# Altium footprint library YS_STM32F407_MC.PcbLib: 52 footprints (part 2 of 4)
Each footprint in its own frame and in the unit in brackets; x right, y up, seen from the top. Pads: shape width x height; smd on the part's side, far side on the other; paste and mask are expansions set on the pad; w line width, h text height; cw(c..) or ccw(c..) is an arc to the next point about the centre after c.
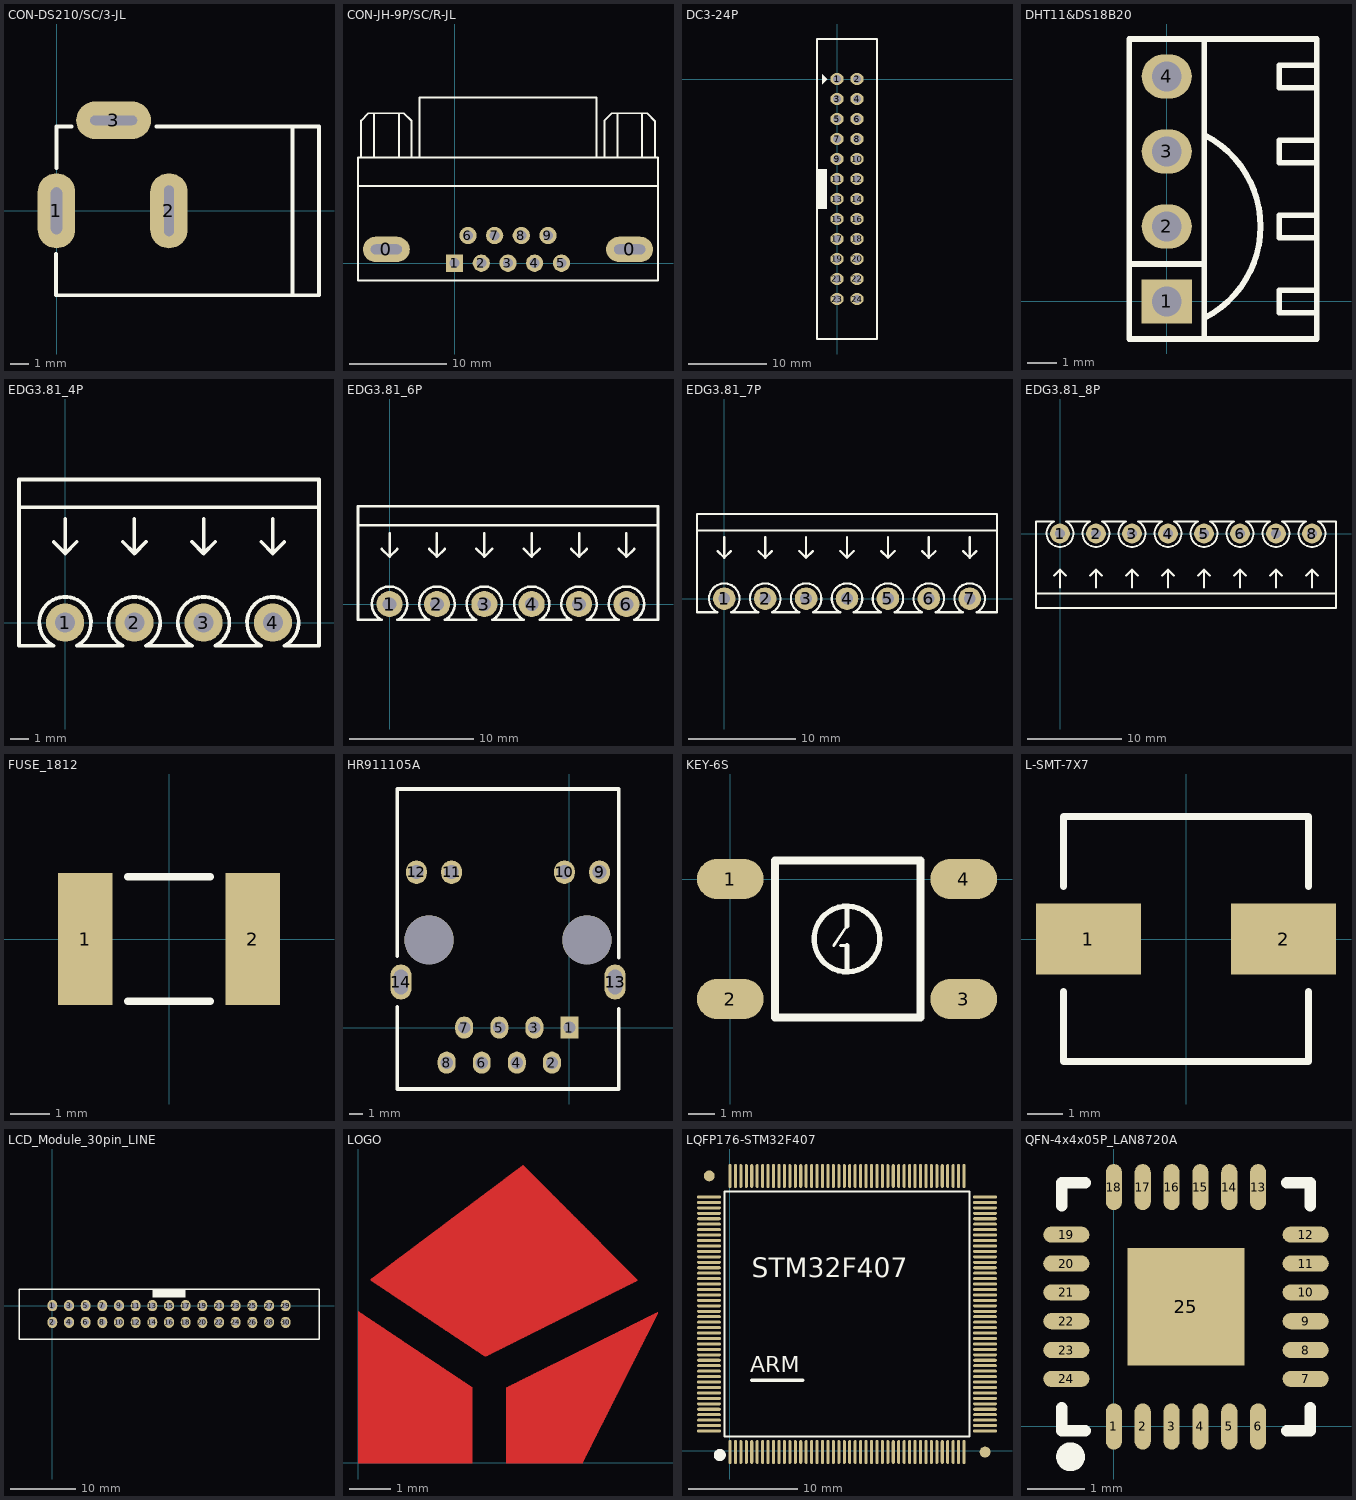
[diagram p1: the footprints below, top view; thin cyan lines are the x and y axes]

## CON-DS210/SC/3-JL [mm]
pads (3):
  oval 2x4 hole 0.6 slot 2.5 at 90 deg: 1(0,0)
  oval 2x4 hole 0.5 slot 2.7 at 90 deg: 2(6,0)
  oval 4x2 hole 0.5 slot 2.5 at 0 deg: 3(3.048,4.826)
Top Overlay:
  lines w0.2: -0.023,-2.286 -0.023,-4.5 14,-4.5 14,4.5 5.334,4.5 ; -0.001,2.286 -0.001,4.49 0.8,4.49 ; 12.589,-4.362 12.589,4.477

## CON-JH-9P/SC/R-JL [mil]
pads (11):
  oval 190x102.36 hole 39.37 slot 125.98 at 0 deg: 0(-275.79,55.91) 0(708.07,55.91)
  rect 70x70 hole 40: 1(0,0)
  round 70 hole 40: 2(108.27,0) 3(216.14,0) 4(324.02,0) 5(432.28,0) 6(54.33,111.81) 7(162.2,111.81) 8(270.08,111.81) 9(377.95,111.81)
Top Overlay:
  lines w7.87: -390.35,312.84 822.8,312.84 ; -378.15,426.77 -378.15,576.85 ; -378.15,575 -378.15,576.85 ; -325,426.77 -325,605 ; -225,426.77 -225,606.3 ; -173.43,426.77 -173.43,575 -204.73,606.3 -348.7,606.3 -378.15,576.85 ; 605.71,426.77 605.71,576.85 ; 605.71,575 605.71,576.85 ; 658.86,426.77 658.86,605 ; 758.86,426.77 758.86,606.3 ; 810.43,426.77 810.43,575 779.13,606.3 635.16,606.3 605.71,576.85 ; 822.64,426.77 822.64,-70.08 -390.35,-70.08 -390.35,426.77 822.8,426.77 ; -142.13,426.77 -142.13,670.08 574.41,670.08 574.41,426.77 -142.13,426.77

## DC3-24P [mm]
pads (24):
  oval 1.7x1.5 hole 1: 1(0,0) 2(2.54,0) 3(0,-2.54) 4(2.54,-2.54) 5(0,-5.08) 6(2.54,-5.08) 7(0,-7.62) 8(2.54,-7.62) 9(0,-10.16) 10(2.54,-10.16) 11(0,-12.7) 12(2.54,-12.7) 13(0,-15.24) 14(2.54,-15.24) 15(0,-17.78) 16(2.54,-17.78) 17(0,-20.32) 18(2.54,-20.32) 19(0,-22.86) 20(2.54,-22.86) 21(0,-25.4) 22(2.54,-25.4) 23(0,-27.94) 24(2.54,-27.94)
Top Overlay:
  rectangle: -2.54,-16.51 -1.27,-11.43
  region: -1.905,0.635 -1.27,0 -1.905,-0.635
  lines w0.2: -2.54,-33.02 5.08,-33.02 5.08,5.08 -2.54,5.08 -2.54,2.54 -2.54,0 -2.54,-33.02

## DHT11&DS18B20 [mm]
pads (4):
  rect 1.7x1.5 hole 1: 1(0,0)
  oval 1.7x1.5 hole 1: 2(0,2.54) 3(0,5.08) 4(0,7.62)
Top Overlay:
  lines w0.2: -1.27,1.27 1.27,1.27 ; 1.301,-0.545 ccw(c-0.302,2.54) 1.301,5.625 ; 5.08,-0.381 3.81,-0.381 3.81,0.381 5.08,0.381 ; 5.08,2.159 3.81,2.159 3.81,2.921 5.08,2.921 ; 5.08,4.699 3.81,4.699 3.81,5.461 5.08,5.461 ; 5.08,7.239 3.81,7.239 3.81,8.001 5.08,8.001 ; 1.27,-1.27 -1.27,-1.27 -1.27,8.89 1.27,8.89 ; 1.27,-1.27 1.27,8.89 ; 1.27,-1.27 5.08,-1.27 5.08,8.89 1.27,8.89

## EDG3.81_4P [mm]
pads (4):
  round 2.1 hole 1.1: 1(0,0) 2(3.81,0) 3(7.62,0) 4(11.43,0)
Top Overlay:
  lines w0.203: -2.54,6.35 13.97,6.35 ; -0.635,4.445 0,3.81 ; 0,5.715 0,3.81 ; 0.635,4.445 0,3.81 ; 3.175,4.445 3.81,3.81 ; 3.81,5.715 3.81,3.81 ; 4.445,4.445 3.81,3.81 ; 6.985,4.445 7.62,3.81 ; 7.62,5.715 7.62,3.81 ; 8.255,4.445 7.62,3.81 ; 10.795,4.445 11.43,3.81 ; 11.43,5.715 11.43,3.81 ; 12.065,4.445 11.43,3.81 ; -2.54,-1.27 -2.54,7.874 13.97,7.874 13.97,-1.27 12.065,-1.27 ccw(c11.43,0) 10.795,-1.27 8.255,-1.27 ccw(c7.62,0) 6.985,-1.27 4.445,-1.27 ccw(c3.81,0) 3.175,-1.27 0.635,-1.27 ccw(c0,0) -0.635,-1.27 -2.54,-1.27

## EDG3.81_6P [mm]
pads (6):
  round 2.1 hole 1.1: 1(0,0) 2(3.81,0) 3(7.62,0) 4(11.43,0) 5(15.24,0) 6(19.05,0)
Top Overlay:
  lines w0.203: -2.54,6.35 21.59,6.35 ; -0.635,4.445 0,3.81 ; 0,5.715 0,3.81 ; 0.635,4.445 0,3.81 ; 3.175,4.445 3.81,3.81 ; 3.81,5.715 3.81,3.81 ; 4.445,4.445 3.81,3.81 ; 6.985,4.445 7.62,3.81 ; 7.62,5.715 7.62,3.81 ; 8.255,4.445 7.62,3.81 ; 10.795,4.445 11.43,3.81 ; 11.43,5.715 11.43,3.81 ; 12.065,4.445 11.43,3.81 ; 14.605,4.445 15.24,3.81 ; 15.24,5.715 15.24,3.81 ; 15.875,4.445 15.24,3.81 ; 18.415,4.445 19.05,3.81 ; 19.05,5.715 19.05,3.81 ; 19.685,4.445 19.05,3.81 ; -2.54,-1.27 -0.635,-1.27 cw(c0,0) 0.635,-1.27 3.175,-1.27 cw(c3.81,0) 4.445,-1.27 6.985,-1.27 cw(c7.62,0) 8.255,-1.27 10.795,-1.27 cw(c11.43,0) 12.065,-1.27 14.605,-1.27 cw(c15.24,0) 15.875,-1.27 18.415,-1.27 cw(c19.05,0) 19.685,-1.27 21.59,-1.27 21.59,7.874 -2.54,7.874 -2.54,-1.27

## EDG3.81_7P [mm]
pads (7):
  round 2.1 hole 1.1: 1(0,0) 2(3.81,0) 3(7.62,0) 4(11.43,0) 5(15.24,0) 6(19.05,0) 7(22.86,0)
Top Overlay:
  lines w0.203: -2.54,6.35 25.4,6.35 ; -0.635,4.445 0,3.81 ; 0,5.715 0,3.81 ; 0.635,4.445 0,3.81 ; 3.175,4.445 3.81,3.81 ; 3.81,5.715 3.81,3.81 ; 4.445,4.445 3.81,3.81 ; 6.985,4.445 7.62,3.81 ; 7.62,5.715 7.62,3.81 ; 8.255,4.445 7.62,3.81 ; 10.795,4.445 11.43,3.81 ; 11.43,5.715 11.43,3.81 ; 12.065,4.445 11.43,3.81 ; 14.605,4.445 15.24,3.81 ; 15.24,5.715 15.24,3.81 ; 15.875,4.445 15.24,3.81 ; 18.415,4.445 19.05,3.81 ; 19.05,5.715 19.05,3.81 ; 19.685,4.445 19.05,3.81 ; 22.225,4.445 22.86,3.81 ; 22.86,5.715 22.86,3.81 ; 23.495,4.445 22.86,3.81 ; -2.54,-1.27 -0.635,-1.27 cw(c0,0) 0.635,-1.27 3.175,-1.27 cw(c3.81,0) 4.445,-1.27 6.985,-1.27 cw(c7.62,0) 8.255,-1.27 10.795,-1.27 cw(c11.43,0) 12.065,-1.27 14.605,-1.27 cw(c15.24,0) 15.875,-1.27 18.415,-1.27 cw(c19.05,0) 19.685,-1.27 22.225,-1.27 cw(c22.86,0) 23.495,-1.27 23.749,-1.27 25.4,-1.27 25.4,7.874 -2.54,7.874 -2.54,-1.27

## EDG3.81_8P [mm]
pads (8):
  round 2.1 hole 1.1: 1(0,0) 2(3.81,0) 3(7.62,0) 4(11.43,0) 5(15.24,0) 6(19.05,0) 7(22.86,0) 8(26.67,0)
Top Overlay:
  lines w0.203: -2.54,-6.35 29.21,-6.35 ; -0.635,-4.445 0,-3.81 ; 0,-5.715 0,-3.81 ; 0.635,-4.445 0,-3.81 ; 3.175,-4.445 3.81,-3.81 ; 3.81,-5.715 3.81,-3.81 ; 4.445,-4.445 3.81,-3.81 ; 6.985,-4.445 7.62,-3.81 ; 7.62,-5.715 7.62,-3.81 ; 8.255,-4.445 7.62,-3.81 ; 10.795,-4.445 11.43,-3.81 ; 11.43,-5.715 11.43,-3.81 ; 12.065,-4.445 11.43,-3.81 ; 14.605,-4.445 15.24,-3.81 ; 15.24,-5.715 15.24,-3.81 ; 15.875,-4.445 15.24,-3.81 ; 18.415,-4.445 19.05,-3.81 ; 19.05,-5.715 19.05,-3.81 ; 19.685,-4.445 19.05,-3.81 ; 22.225,-4.445 22.86,-3.81 ; 22.86,-5.715 22.86,-3.81 ; 23.495,-4.445 22.86,-3.81 ; 26.035,-4.445 26.67,-3.81 ; 26.67,-5.715 26.67,-3.81 ; 27.305,-4.445 26.67,-3.81 ; -2.54,-7.874 -2.54,1.27 -0.635,1.27 ccw(c0,0) 0.635,1.27 3.175,1.27 ccw(c3.81,0) 4.445,1.27 6.985,1.27 ccw(c7.62,0) 8.255,1.27 10.795,1.27 ccw(c11.43,0) 12.065,1.27 14.605,1.27 ccw(c15.24,0) 15.875,1.27 18.415,1.27 ccw(c19.05,0) 19.685,1.27 22.225,1.27 ccw(c22.86,0) 23.495,1.27 26.035,1.27 ccw(c26.67,0) 27.305,1.27 29.21,1.27 29.21,-7.874 -2.54,-7.874

## FUSE_1812 [mm]
pads (2):
  rect 1.4x3.4 smd: 1(-2.15,0) 2(2.15,0)
Top Overlay:
  lines w0.2: -1.05,-1.6 1.05,-1.6 ; -1.05,1.6 1.05,1.6

## HR911105A [mm]
pads (16):
  rect 1.3x1.6 hole 0.89: 1(0,0)
  oval 1.3x1.6 hole 0.89: 2(-1.27,-2.54) 3(-2.54,0) 4(-3.81,-2.54) 5(-5.08,0) 6(-6.35,-2.54) 7(-7.62,0) 8(-8.89,-2.54)
  oval 1.5x1.7 hole 1.02: 9(2.175,11.25) 10(-0.365,11.25) 11(-8.535,11.25) 12(-11.075,11.25)
  oval 1.524x2.54 hole 1.016 slot 1.778 at 90 deg: 13(3.3,3.3) 14(-12.2,3.3)
  round 3.556 hole 3.556: ""(-10.165,6.35) ""(1.265,6.35)
Top Overlay:
  lines w0.254: -12.45,1.503 -12.45,-4.445 3.55,-4.445 3.55,1.372 ; -12.45,5.147 -12.45,17.27 3.55,17.27 3.55,5.053

## KEY-6S [mil]
pads (4):
  oval 100x60 smd: 1(0,0) 2(0,-180) 3(350,-180) 4(350,0)
Top Overlay:
  circle w8: c175,-90 r49.21
  lines w4: 155.32,-99.84 175,-70.32 ; 165.16,-99.84 175,-99.84
  lines w8: 175,-139.21 175,-99.84 ; 175,-70.32 175,-40.79
  lines w12: 66.89,-208.11 66.89,28.11 285,28.11 285,-208.11 66.89,-208.11

## L-SMT-7X7 [mil]
pads (2):
  rect 118.11x80 smd: 1(-110,0) 2(110,0)
Top Overlay:
  lines w7.87: -137.79,-59.05 -137.79,-137.79 137.8,-137.79 137.8,-59.05 ; -137.79,59.06 -137.79,137.8 137.8,137.8 137.8,59.06

## LCD_Module_30pin_LINE [mm]
pads (30):
  oval 1.5x1.7 hole 1: 1(0,0) 2(0,-2.54) 3(2.54,0) 4(2.54,-2.54) 5(5.08,0) 6(5.08,-2.54) 7(7.62,0) 8(7.62,-2.54) 9(10.16,0) 10(10.16,-2.54) 11(12.7,0) 12(12.7,-2.54) 13(15.24,0) 14(15.24,-2.54) 15(17.78,0) 16(17.78,-2.54) 17(20.32,0) 18(20.32,-2.54) 19(22.86,0) 20(22.86,-2.54) 21(25.4,0) 22(25.4,-2.54) 23(27.94,0) 24(27.94,-2.54) 25(30.48,0) 26(30.48,-2.54) 27(33.02,0) 28(33.02,-2.54) 29(35.56,0) 30(35.56,-2.54)
Top Overlay:
  rectangle: 15.24,1.27 20.32,2.54
  lines w0.203: -5.08,-5.08 -5.08,2.54 40.64,2.54 40.64,-5.08 -1.27,-5.08 -5.08,-5.08

## LOGO [mm]
Top Layer:
  drawing of 2327 lines, arcs and shapes, not listed

## LQFP176-STM32F407 [mm]
pads (178):
  oval 0.28x2.2 smd mask+0.051: 1(0,-0.127) 2(0.5,-0.127) 3(1,-0.127) 4(1.5,-0.127) 5(2,-0.127) 6(2.5,-0.127) 7(3,-0.127) 8(3.5,-0.127) 9(4,-0.127) 10(4.5,-0.127) 11(5,-0.127) 12(5.5,-0.127) 13(6,-0.127) 14(6.5,-0.127) 15(7,-0.127) 16(7.5,-0.127) 17(8,-0.127) 18(8.5,-0.127) 19(9,-0.127) 20(9.5,-0.127) 21(10,-0.127) 22(10.5,-0.127) 23(11,-0.127) 24(11.5,-0.127) 25(12,-0.127) 26(12.5,-0.127) 27(13,-0.127) 28(13.5,-0.127) 29(14,-0.127) 30(14.5,-0.127) 31(15,-0.127) 32(15.5,-0.127) 33(16,-0.127) 34(16.5,-0.127) 35(17,-0.127) 36(17.5,-0.127) 37(18,-0.127) 38(18.5,-0.127) 39(19,-0.127) 40(19.5,-0.127) 41(20,-0.127) 42(20.5,-0.127) 43(21,-0.127) 44(21.5,-0.127) 89(21.5,25.227) 90(21,25.227) 91(20.5,25.227) 92(20,25.227) 93(19.5,25.227) 94(19,25.227) 95(18.5,25.227) 96(18,25.227) 97(17.5,25.227) 98(17,25.227) 99(16.5,25.227) 100(16,25.227) 101(15.5,25.227) 102(15,25.227) 103(14.5,25.227) 104(14,25.227) 105(13.5,25.227) 106(13,25.227) 107(12.5,25.227) 108(12,25.227) 109(11.5,25.227) 110(11,25.227) 111(10.5,25.227) 112(10,25.227) 113(9.5,25.227) 114(9,25.227) 115(8.5,25.227) 116(8,25.227) 117(7.5,25.227) 118(7,25.227) 119(6.5,25.227) 120(6,25.227) 121(5.5,25.227) 122(5,25.227) 123(4.5,25.227) 124(4,25.227) 125(3.5,25.227) 126(3,25.227) 127(2.5,25.227) 128(2,25.227) 129(1.5,25.227) 130(1,25.227) 131(0.5,25.227) 132(0,25.227)
  oval 2.2x0.28 smd mask+0.051: 45(23.427,1.8) 46(23.427,2.3) 47(23.427,2.8) 48(23.427,3.3) 49(23.427,3.8) 50(23.427,4.3) 51(23.427,4.8) 52(23.427,5.3) 53(23.427,5.8) 54(23.427,6.3) 55(23.427,6.8) 56(23.427,7.3) 57(23.427,7.8) 58(23.427,8.3) 59(23.427,8.8) 60(23.427,9.3) 61(23.427,9.8) 62(23.427,10.3) 63(23.427,10.8) 64(23.427,11.3) 65(23.427,11.8) 66(23.427,12.3) 67(23.427,12.8) 68(23.427,13.3) 69(23.427,13.8) 70(23.427,14.3) 71(23.427,14.8) 72(23.427,15.3) 73(23.427,15.8) 74(23.427,16.3) 75(23.427,16.8) 76(23.427,17.3) 77(23.427,17.8) 78(23.427,18.3) 79(23.427,18.8) 80(23.427,19.3) 81(23.427,19.8) 82(23.427,20.3) 83(23.427,20.8) 84(23.427,21.3) 85(23.427,21.8) 86(23.427,22.3) 87(23.427,22.8) 88(23.427,23.3) 133(-1.927,23.3) 134(-1.927,22.8) 135(-1.927,22.3) 136(-1.927,21.8) 137(-1.927,21.3) 138(-1.927,20.8) 139(-1.927,20.3) 140(-1.927,19.8) 141(-1.927,19.3) 142(-1.927,18.8) 143(-1.927,18.3) 144(-1.927,17.8) 145(-1.927,17.3) 146(-1.927,16.8) 147(-1.927,16.3) 148(-1.927,15.8) 149(-1.927,15.3) 150(-1.927,14.8) 151(-1.927,14.3) 152(-1.927,13.8) 153(-1.927,13.3) 154(-1.927,12.8) 155(-1.927,12.3) 156(-1.927,11.8) 157(-1.927,11.3) 158(-1.927,10.8) 159(-1.927,10.3) 160(-1.927,9.8) 161(-1.927,9.3) 162(-1.927,8.8) 163(-1.927,8.3) 164(-1.927,7.8) 165(-1.927,7.3) 166(-1.927,6.8) 167(-1.927,6.3) 168(-1.927,5.8) 169(-1.927,5.3) 170(-1.927,4.8) 171(-1.927,4.3) 172(-1.927,3.8) 173(-1.927,3.3) 174(-1.927,2.8) 175(-1.927,2.3) 176(-1.927,1.8)
  round 1 smd: ""(-1.905,25.227) ""(23.427,-0.127)
Top Overlay:
  circle w0.6: c-0.934,-0.404 r0.254
  lines w0.2: -0.5,1.3 22,1.3 22,23.8 -0.5,23.8 -0.5,1.3
  lines w0.305: 1.987,6.454 6.686,6.454
  text "ARM" at 1.86,6.708 h2.54
  text "STM32F407" at 1.987,15.344 h3.05

## QFN-4x4x05P_LAN8720A [mm]
pads (25):
  oval 0.28x0.8 smd mask+0.051: 1(0,0) 2(0.5,0) 3(1,0) 4(1.5,0) 5(2,0) 6(2.5,0) 13(2.5,4.15) 14(2,4.15) 15(1.5,4.15) 16(1,4.15) 17(0.5,4.15) 18(0,4.15)
  oval 0.8x0.28 smd mask+0.051: 7(3.325,0.825) 8(3.325,1.325) 9(3.325,1.825) 10(3.325,2.325) 11(3.325,2.825) 12(3.325,3.325) 19(-0.825,3.325) 20(-0.825,2.825) 21(-0.825,2.325) 22(-0.825,1.825) 23(-0.825,1.325) 24(-0.825,0.825)
  rect 2.032x2.032 smd mask+0.051: 25(1.25,2.075)
Top Overlay:
  circle w0.25: c-0.75,-0.525 r0.125
  lines w0.2: -0.9,0.325 -0.9,-0.075 -0.5,-0.075 ; -0.9,3.825 -0.9,4.225 -0.5,4.225 ; 3,-0.075 3.4,-0.075 3.4,0.325 ; 3,4.225 3.4,4.225 3.4,3.825